# Altium footprint library 9-Comp+Tests.PcbLib: 125 footprints (part 1 of 8)
Each footprint in its own frame and in the unit in brackets; x right, y up, seen from the top. Pads: shape width x height; smd on the part's side, far side on the other; paste and mask are expansions set on the pad; w line width, h text height; cw(c..) or ccw(c..) is an arc to the next point about the centre after c.
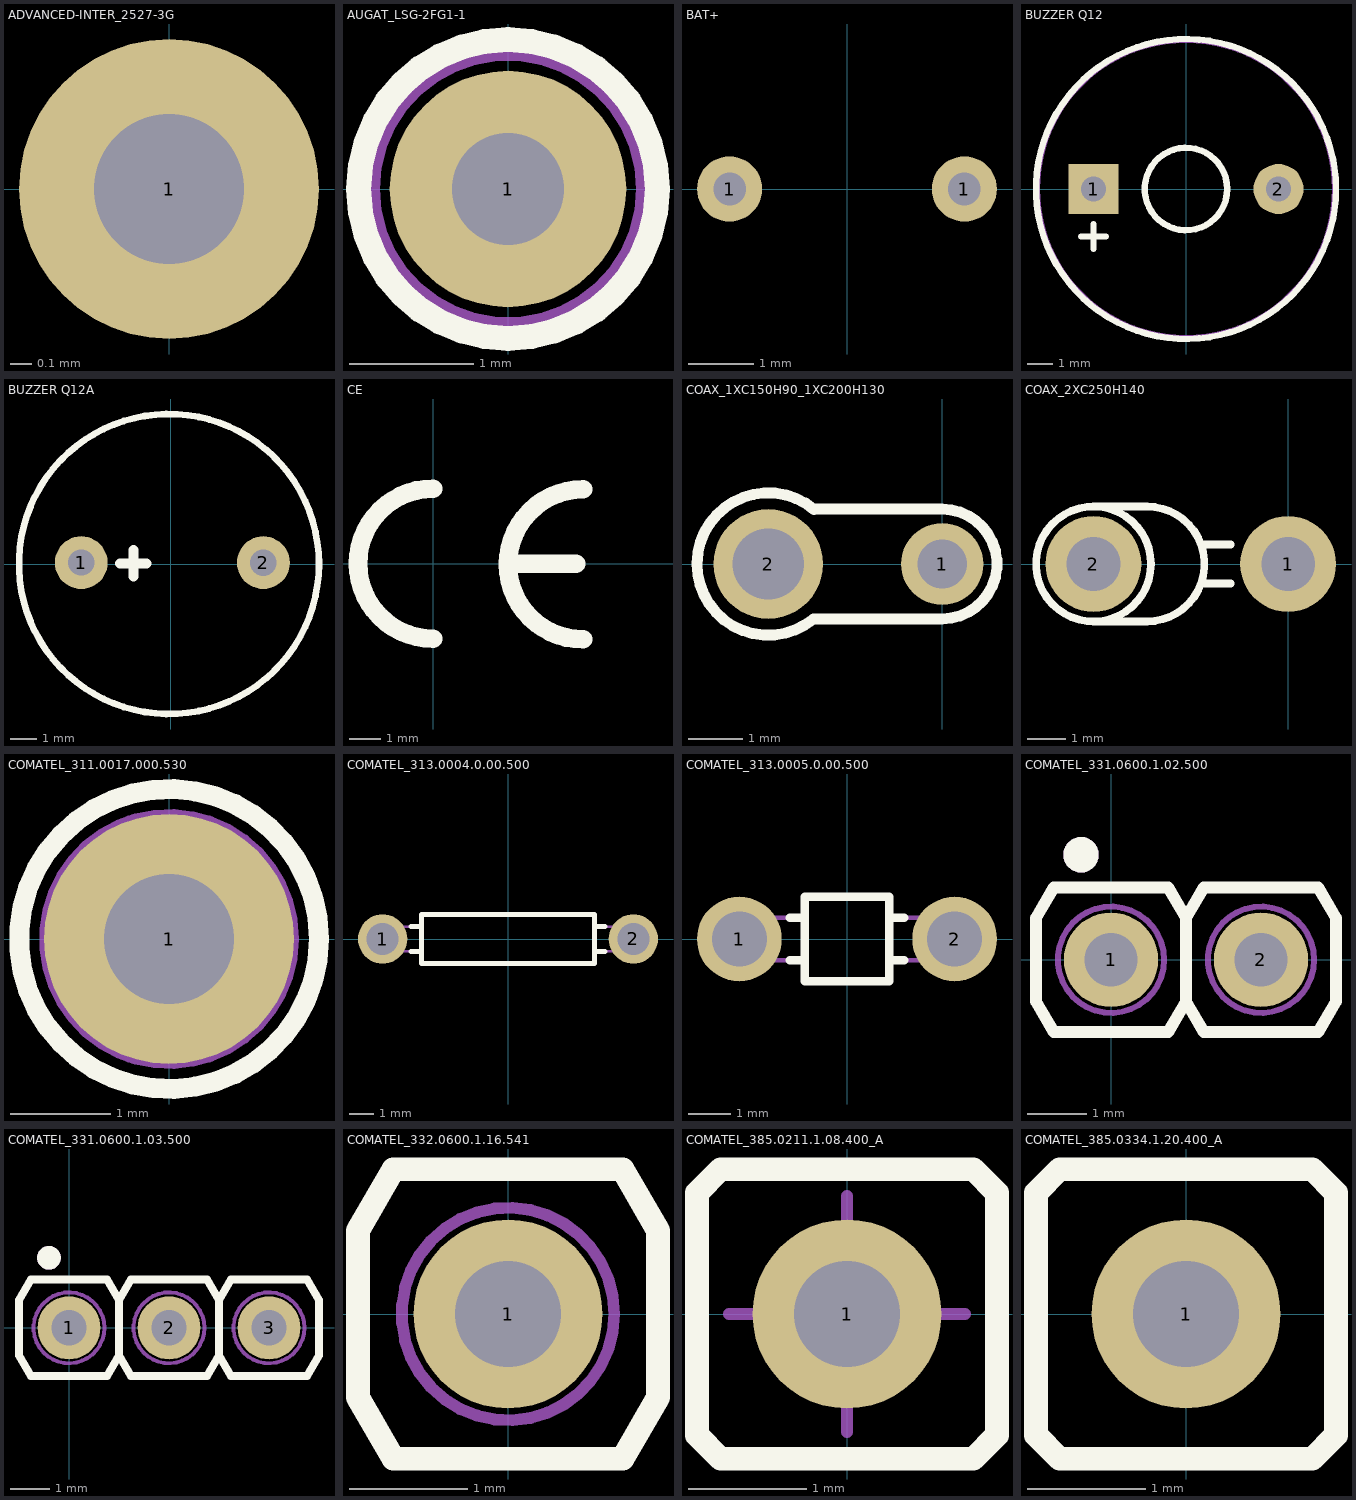
[diagram p0: the footprints below, top view; thin cyan lines are the x and y axes]

## ADVANCED-INTER_2527-3G [mm] "Single Male/Male Board Stacking Male Terminal adapter"
height 5.34
pads (1):
  round 1.4 hole 0.7: 1(0,0)
Mechanical 14:
  circle w0.1: c0,0 r0.47
  circle w0.1: c0,0 r0.23
3D body "ADVANCED-INTER_2527-2.stp": height 4.97, standoff -3.18, extent -0.47,-0.47 0.47,0.47
3D body "v140-070.stp": height 0.02, standoff -1.65, extent -0.7,-0.7 0.7,0.7

## AUGAT_LSG-2FG1-1 [mm] "Single Lead Socket - Wire-Wrap Termination"
height 7.7
pads (1):
  round 1.9 / inner round 1.5 / far side round 1.5 hole 0.9: 1(0,0)
Top Overlay:
  circle w0.2: c0,0 r1.2
Mechanical 14:
  circle w0.1: c0,0 r1.08
Mechanical 15:
  circle w0.05: c0,0 r1.205
3D body "AUGAT_LSG-2FG1-1.stp": height 7.72, standoff -12.93, extent -1.079,-1.079 1.08,1.08

## BAT+ [mm]
height 5.98
pads (2):
  round 1 hole 0.5: 1(-1.8,0) 1(1.8,0)
3D body "v100-050.stp": height 0.02, standoff -1.65, extent 1.3,-0.5 2.3,0.5
3D body "v100-050.stp": height 0.02, standoff -1.65, extent -2.3,-0.5 -1.3,0.5
3D body "bat-.stp": height 3, standoff -0.85, extent -2,-1.25 2,0.75

## BUZZER Q12 [mm]
height 11.7
pads (2):
  rect 2x2 hole 1: 1(-3.7,0)
  round 2 hole 1: 2(3.7,0)
Top Overlay:
  circle w0.254: c0,0 r1.649
  circle w0.254: c0,0 r6
  lines w0.254: -4.2,-1.9 -3.2,-1.9 ; -3.7,-2.4 -3.7,-1.4
Mechanical 15:
  circle w0.127: c0,0 r5.904
3D body "spk12x05.stp": height 5.5, standoff -4.46, extent -6,-6 6,6

## BUZZER Q12A [mil]
height 460.63
pads (2):
  round 80 hole 39.37: 1(-135.8,2)
  round 80 hole 40: 2(139.8,2)
Top Overlay:
  circle w10: c-3,0 r227
  lines w15: -77,1 -37,1 ; -57,-19 -57,21
3D body "BUZZER.stp": height 216.54, standoff -49.21, extent -217.54,-217 215.54,216.07

## CE [mm]
Top Overlay:
  lines w0.6: 0,-2.413 cw(c0,0) 0,2.413 ; 2.53,0 4.6,0 ; 4.826,-2.438 cw(c4.826,-0.025) 4.826,2.388
3D body "ce.stp": height 0.02, standoff 0, extent -2.725,-2.725 4.82,2.725

## COAX_1XC150H90_1XC200H130 [mm] "2 Plated Through Hole For Coaxial Cable Link: 1 X Hole Dia.=0.9mm + 1 X Hole Dia.=1.3mm"
height 11.7
pads (2):
  round 1.5 hole 0.9: 1(0,0)
  round 2 hole 1.3: 2(-3.175,0)
Top Overlay:
  lines w0.2: -2.348,-1.003 cw(c-3.175,0) -2.339,0.996 ; -2.339,-1 0,-1 ccw(c0,0) 0,1 -2.339,1
3D body "v150-090.stp": height 0.02, standoff -1.65, extent -0.75,-0.75 0.75,0.75
3D body "v200-130.stp": height 0.02, standoff -1.65, extent -4.175,-1 -2.175,1

## COAX_2XC250H140 [mm] "2 Plated Through Hole For Coaxial Cable Link: Hole Dia.=1.4mm Pad Dia.=2.5mm"
height 11.7
pads (2):
  round 2.5 hole 1.4: 1(0,0) 2(-5.08,0)
Top Overlay:
  circle w0.2: c-5.08,0 r1.5
  lines w0.2: -5.08,-1.5 -3.683,-1.5 ccw(c-3.683,0) -3.683,1.5 -5.08,1.5 ; -2.2,-0.508 -1.5,-0.508 ; -2.2,0.508 -1.5,0.508
3D body "v250-140.stp": height 0.02, standoff -1.65, extent -6.33,-1.25 -3.83,1.25
3D body "v250-140.stp": height 0.02, standoff -1.65, extent -1.25,-1.25 1.25,1.25

## COMATEL_311.0017.000.530 [mm] "Solder Fork Terminal ( hole 1.3 mm)"
height 4.2
pads (1):
  round 2.5 hole 1.3: 1(0,0)
Top Overlay:
  circle w0.2: c0,0 r1.5
Mechanical 8:
  lines w0.1: -1,0 0,0 ; 0,-1 0,0 ; 0,1 0,0 ; 1,0 0,0
Mechanical 14:
  circle w0.1: c0,0 r1.25
  lines w0.1: -0.4,-1.184 -0.4,-0.447 ccw(c0,0) 0.4,-0.447 0.4,-1.184 ; -0.4,1.184 -0.4,0.447 cw(c0,0) 0.4,0.447 0.4,1.184
3D body "COMATEL_311.0017.000.530.stp": height 4, standoff -2.6, extent -1.25,-1.25 1.25,1.25

## COMATEL_313.0004.0.00.500 [mm] "Male Jumper Pitch 10.16mm"
height 3
pads (2):
  round 2 hole 1.3: 1(-5.08,0) 2(5.08,0.001)
Top Overlay:
  lines w0.2: -3.937,-0.501 -3.5,-0.501 ; -3.937,0.499 -3.5,0.499 ; 3.5,-0.501 3.937,-0.501 ; 3.5,0.499 3.937,0.499 ; -3.5,-1.001 -3.5,0.999 3.5,0.999 3.5,-1.001 -3.5,-1.001
Mechanical 14:
  lines w0.1: -3.5,-0.501 -5.08,-0.501 cw(c-5.08,-0.001) -5.08,0.499 -3.5,0.499 ; 3.5,-0.501 5.08,-0.501 ccw(c5.08,-0.001) 5.08,0.499 3.5,0.499 ; -3.5,-1.001 -3.5,0.999 3.5,0.999 3.5,-1.001 -3.5,-1.001
3D body "v130-100.stp": height 0.02, standoff -1.65, extent 4.08,-0.999 6.08,1.001
3D body "v130-100.stp": height 0.02, standoff -1.65, extent -6.08,-1 -4.08,1
3D body "COMATEL_313.0004.0.00.500.stp": height 3, standoff -3.2, extent -5.58,-1 5.58,1

## COMATEL_313.0005.0.00.500 [mm] "Male Jumper Pitch 5.08mm"
height 3
pads (2):
  round 2 hole 1.3: 1(-2.54,0) 2(2.54,0)
Top Overlay:
  lines w0.2: -1.35,-0.5 -1,-0.5 ; -1.35,0.5 -1,0.5 ; 1,-0.5 1.35,-0.5 ; 1,0.5 1.35,0.5 ; -1,-1 -1,1 1,1 1,-1 -1,-1
Mechanical 14:
  lines w0.1: -1,-0.5 -2.54,-0.5 cw(c-2.54,0) -2.54,0.5 -1,0.5 ; 1,-0.5 2.54,-0.5 ccw(c2.54,0) 2.54,0.5 1,0.5 ; -1,-1 -1,1 1,1 1,-1 -1,-1
3D body "v200-130.stp": height 0.02, standoff -1.65, extent 1.54,-1 3.54,1
3D body "v200-130.stp": height 0.02, standoff -1.65, extent -3.54,-1 -1.54,1
3D body "COMATEL_313.0005.0.00.500.stp": height 3, standoff -3.2, extent -3.04,-1 3.04,1

## COMATEL_331.0600.1.02.500 [mm] "2 \"U\" Pins Strip Terminals Components Support, Pitch 2.54mm"
height 5.7
pads (2):
  round 1.6 hole 0.9: 1(0,0) 2(2.54,0)
Top Overlay:
  circle w0.3: c-0.508,1.778 r0.15
  lines w0.2: 1.27,-0.705 1.27,0.705 ; 1.27,-0.705 1.57,-1.225 3.51,-1.225 3.81,-0.705 3.81,0.705 3.51,1.225 1.57,1.225 1.27,0.705 ; 1.27,-0.705 1.27,0.705 ; 1.27,-0.705 0.97,-1.225 -0.97,-1.225 -1.27,-0.705 -1.27,0.705 -0.97,1.225 0.97,1.225 1.27,0.705
Mechanical 14:
  circle w0.3: c-0.508,1.778 r0.15
  circle w0.1: c2.54,0 r0.9
  circle w0.1: c0,0 r0.9
  lines w0.1: 1.27,-0.705 1.27,0.705 ; 1.27,-0.705 1.57,-1.225 3.51,-1.225 3.81,-0.705 3.81,0.705 3.51,1.225 1.57,1.225 1.27,0.705 ; 1.27,-0.705 1.27,0.705 ; 1.27,-0.705 0.97,-1.225 -0.97,-1.225 -1.27,-0.705 -1.27,0.705 -0.97,1.225 0.97,1.225 1.27,0.705
3D body "COMATEL_331.0600.1.02.500.stp": height 5.7, standoff -3, extent -1.27,-1.225 3.81,1.225

## COMATEL_331.0600.1.03.500 [mm] "3 \"U\" Pins Strip Terminals Components Support, Pitch 2.54mm"
height 5.7
pads (3):
  round 1.6 hole 0.9: 1(0,0) 2(2.54,0) 3(5.08,0)
Top Overlay:
  circle w0.3: c-0.508,1.778 r0.15
  lines w0.2: 1.27,-0.705 0.97,-1.225 -0.97,-1.225 -1.27,-0.705 -1.27,0.705 -0.97,1.225 0.97,1.225 1.27,0.705 ; 1.27,-0.705 1.27,0.705 ; 1.27,-0.705 1.57,-1.225 3.51,-1.225 3.81,-0.705 ; 1.27,-0.705 1.27,0.705 ; 1.27,0.705 1.57,1.225 3.51,1.225 3.81,0.705 ; 3.81,-0.705 3.81,0.705 ; 3.81,-0.705 4.11,-1.225 6.05,-1.225 6.35,-0.705 6.35,0.705 6.05,1.225 4.11,1.225 3.81,0.705 ; 3.81,-0.705 3.81,0.705
Mechanical 14:
  circle w0.3: c-0.508,1.778 r0.15
  circle w0.1: c0,0 r0.9
  circle w0.1: c2.54,0 r0.9
  circle w0.1: c5.08,0 r0.9
  lines w0.1: 1.27,-0.705 0.97,-1.225 -0.97,-1.225 -1.27,-0.705 -1.27,0.705 -0.97,1.225 0.97,1.225 1.27,0.705 ; 1.27,-0.705 1.27,0.705 ; 1.27,-0.705 1.57,-1.225 3.51,-1.225 3.81,-0.705 ; 1.27,-0.705 1.27,0.705 ; 1.27,0.705 1.57,1.225 3.51,1.225 3.81,0.705 ; 3.81,-0.705 3.81,0.705 ; 3.81,-0.705 4.11,-1.225 6.05,-1.225 6.35,-0.705 6.35,0.705 6.05,1.225 4.11,1.225 3.81,0.705 ; 3.81,-0.705 3.81,0.705
3D body "COMATEL_331.0600.1.03.500.stp": height 5.7, standoff -3, extent -1.27,-1.225 6.35,1.225

## COMATEL_332.0600.1.16.541 [mm] "1of 16 \"U\" Pins Strip Terminals Components Support, Pitch 2.54mm"
height 5.7
pads (1):
  round 1.6 hole 0.9: 1(0,0)
Top Overlay:
  lines w0.2: -1.27,-0.705 -0.97,-1.225 0.97,-1.225 1.27,-0.705 1.27,0.705 0.97,1.225 -0.97,1.225 -1.27,0.705 -1.27,-0.705
Mechanical 14:
  circle w0.1: c0,0 r0.9
  lines w0.1: -1.27,-0.705 -0.97,-1.225 0.97,-1.225 1.27,-0.705 1.27,0.705 0.97,1.225 -0.97,1.225 -1.27,0.705 -1.27,-0.705
3D body "COMATEL_332.0600.1.16.541.stp": height 5.7, standoff -3, extent -1.27,-1.225 1.27,1.225

## COMATEL_385.0211.1.08.400_A [mm] "Wire-Wrap contact (Pin Length= 16.5mm)"
height 18.2
pads (1):
  round 1.6 hole 0.9: 1(0,0)
Top Overlay:
  lines w0.2: -1.27,-1.025 -1.27,1.025 -1.07,1.225 1.07,1.225 1.27,1.025 1.27,-1.025 1.07,-1.225 -1.07,-1.225 -1.27,-1.025
Mechanical 8:
  lines w0.1: -1,0 0,0 ; 0,-1 0,0 ; 0,1 0,0 ; 1,0 0,0
Mechanical 14:
  lines w0.1: -1.27,-1.025 -1.07,-1.225 1.07,-1.225 1.27,-1.025 1.27,1.025 1.07,1.225 -1.07,1.225 -1.27,1.025 -1.27,-1.025
3D body "COMATEL_385.0211.1.08.400_a.stp": height 18.2, standoff -3.8, extent -1.27,-1.225 1.27,1.225

## COMATEL_385.0334.1.20.400_A [mm] "Wire-Wrap contact (Pin Length= 7.5mm)"
height 9.2
pads (1):
  round 1.6 hole 0.9: 1(0,0)
Top Overlay:
  lines w0.2: -1.27,-1.025 -1.27,1.025 -1.07,1.225 1.07,1.225 1.27,1.025 1.27,-1.025 1.07,-1.225 -1.07,-1.225 -1.27,-1.025
Mechanical 14:
  lines w0.1: -1.27,-1.025 -1.07,-1.225 1.07,-1.225 1.27,-1.025 1.27,1.025 1.07,1.225 -1.07,1.225 -1.27,1.025 -1.27,-1.025
3D body "COMATEL_385.0334.1.20.400_a.stp": height 9.2, standoff -3.3, extent -1.27,-1.225 1.27,1.225